# EAGLE library part ADS1113 (library bytewerk-analog)
ADC, 16 Bit, I2C, VDD: 2V-5V
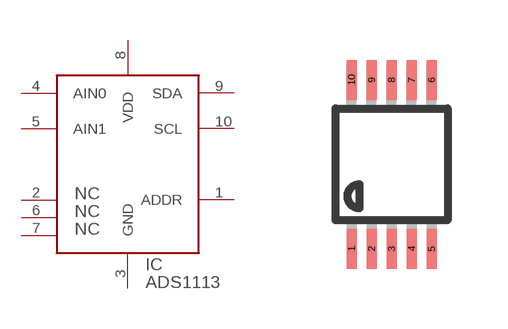
[diagram p3: symbol with the pads of MSOP10; footprint MSOP10]

Designator prefix IC

## ADS1113 (MF: TI; MPN: ADS1113DGS; OC_MOUSER: 595-ADS1113IDGST)  [MSOP10]
1  ADDR  in
2  P$8  nc
3  GND  pwr
4  AIN0  in
5  AIN1  in
6  P$9  nc
7  P$10  nc
8  VDD  pwr
9  SDA
10  SCL  in

## Footprint MSOP10 (pad centres in mm)
10-Lead Mini Small Outline Package [MSOP] (RM-10) Source: http://www.analog.com/UploadedFiles/Data_Sheets/35641221898805SSM2167_b.pdf COMPLIANT TO JEDEC STANDARDS MO-187BA
smd 0.25 x 1: 1 -1,-2.113; 2 -0.5,-2.113; 3 0,-2.113; 4 0.5,-2.113; 5 1,-2.113; 6 1,2.113; 7 0.5,2.113; 8 0,2.113; 9 -0.5,2.113; 10 -1,2.113